# Altium footprint library WR-FPC_1.00mm.PcbLib: 115 footprints (part 7 of 8)
Each footprint in its own frame and in the unit in brackets; x right, y up, seen from the top. Pads: shape width x height; smd on the part's side, far side on the other; paste and mask are expansions set on the pad; w line width, h text height; cw(c..) or ccw(c..) is an arc to the next point about the centre after c.
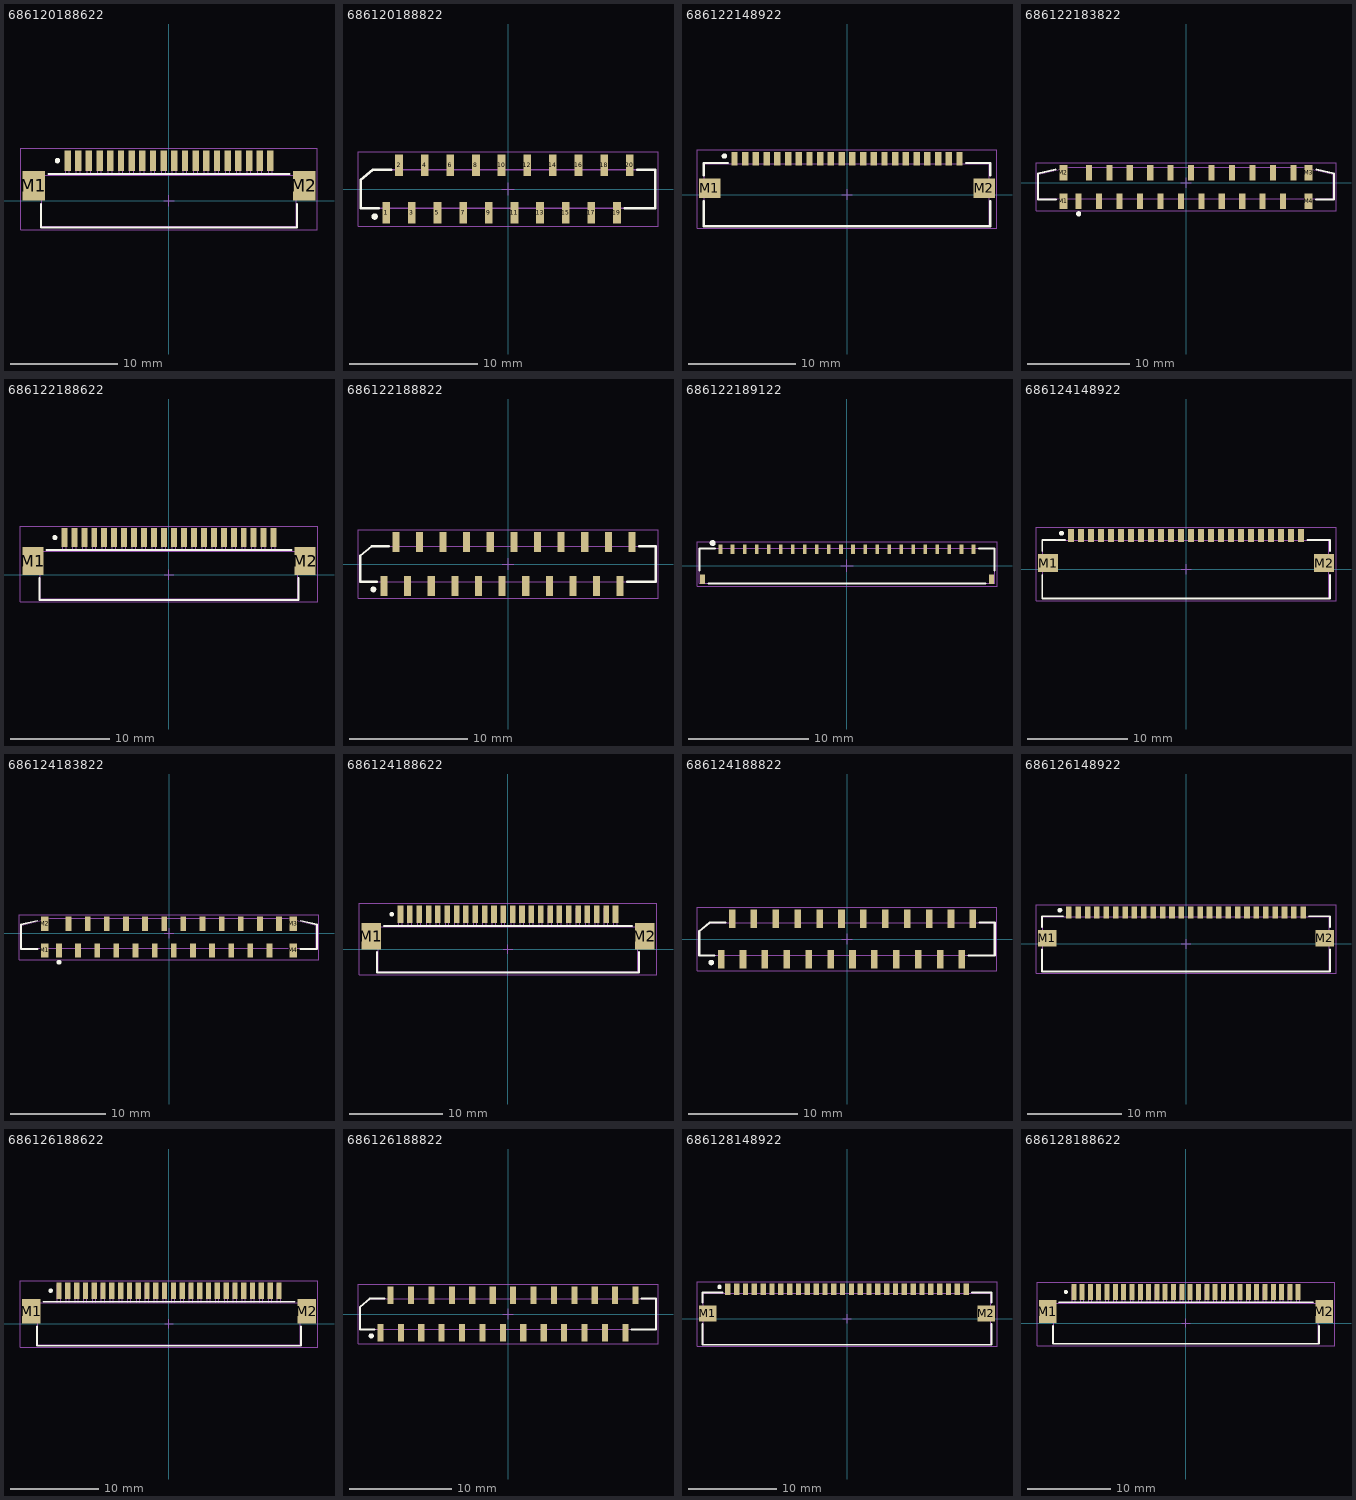
[diagram p6: the footprints below, top view; thin cyan lines are the x and y axes]

## 686120188622 [mm] "LIF Connectors, Horizontal, Top Contact, pitch 1mm, 20p"
height 3.1
pads (22):
  rect 0.6x1.9 smd: 1(-9.5,3.75) 2(-8.5,3.75) 3(-7.5,3.75) 4(-6.5,3.75) 5(-5.5,3.75) 6(-4.5,3.75) 7(-3.5,3.75) 8(-2.5,3.75) 9(-1.5,3.75) 10(-0.5,3.75) 11(0.5,3.75) 12(1.5,3.75) 13(2.5,3.75) 14(3.5,3.75) 15(4.5,3.75) 16(5.5,3.75) 17(6.5,3.75) 18(7.5,3.75) 19(8.5,3.75) 20(9.5,3.75)
  rect 2.1x2.8 smd: M1(-12.65,1.4) M2(12.65,1.4)
Top Overlay:
  circle w0.25: c-10.45,3.75 r0.125
  lines w0.2: -12,-0.3 -12,-2.5 12,-2.5 12,-0.3 ; -11.3,2.5 11.3,2.5
Top Designator:
  text ".Designator" at -7.498,-0.5 h1.5
Top Component Outline:
  lines w0.1: -9.675,2.4 -9.675,4.4 -9.325,4.4 -9.325,2.4 ; -8.675,2.4 -8.675,4.4 -8.325,4.4 -8.325,2.4 ; -7.675,2.4 -7.675,4.4 -7.325,4.4 -7.325,2.4 ; -6.675,2.4 -6.675,4.4 -6.325,4.4 -6.325,2.4 ; -5.675,2.4 -5.675,4.4 -5.325,4.4 -5.325,2.4 ; -4.675,2.4 -4.675,4.4 -4.325,4.4 -4.325,2.4 ; -3.675,2.4 -3.675,4.4 -3.325,4.4 -3.325,2.4 ; -2.675,2.4 -2.675,4.4 -2.325,4.4 -2.325,2.4 ; -1.675,2.4 -1.675,4.4 -1.325,4.4 -1.325,2.4 ; -0.675,2.4 -0.675,4.4 -0.325,4.4 -0.325,2.4 ; 0.325,2.4 0.325,4.4 0.675,4.4 0.675,2.4 ; 1.325,2.4 1.325,4.4 1.675,4.4 1.675,2.4 ; 2.325,2.4 2.325,4.4 2.675,4.4 2.675,2.4 ; 3.325,2.4 3.325,4.4 3.675,4.4 3.675,2.4 ; 4.325,2.4 4.325,4.4 4.675,4.4 4.675,2.4 ; 5.325,2.4 5.325,4.4 5.675,4.4 5.675,2.4 ; 6.325,2.4 6.325,4.4 6.675,4.4 6.675,2.4 ; 7.325,2.4 7.325,4.4 7.675,4.4 7.675,2.4 ; 8.325,2.4 8.325,4.4 8.675,4.4 8.675,2.4 ; 9.325,2.4 9.325,4.4 9.675,4.4 9.675,2.4 ; -13.15,0.4 -11.9,0.4 -11.9,-2.4 11.9,-2.4 11.9,0.4 13.15,0.4 13.15,2.4 -13.15,2.4 -13.15,0.4
Top 3D Body:
  lines w0.1: -9.675,2.4 -9.675,4.4 -9.325,4.4 -9.325,2.4 ; -8.675,2.4 -8.675,4.4 -8.325,4.4 -8.325,2.4 ; -7.675,2.4 -7.675,4.4 -7.325,4.4 -7.325,2.4 ; -6.675,2.4 -6.675,4.4 -6.325,4.4 -6.325,2.4 ; -5.675,2.4 -5.675,4.4 -5.325,4.4 -5.325,2.4 ; -4.675,2.4 -4.675,4.4 -4.325,4.4 -4.325,2.4 ; -3.675,2.4 -3.675,4.4 -3.325,4.4 -3.325,2.4 ; -2.675,2.4 -2.675,4.4 -2.325,4.4 -2.325,2.4 ; -1.675,2.4 -1.675,4.4 -1.325,4.4 -1.325,2.4 ; -0.675,2.4 -0.675,4.4 -0.325,4.4 -0.325,2.4 ; 0.325,2.4 0.325,4.4 0.675,4.4 0.675,2.4 ; 1.325,2.4 1.325,4.4 1.675,4.4 1.675,2.4 ; 2.325,2.4 2.325,4.4 2.675,4.4 2.675,2.4 ; 3.325,2.4 3.325,4.4 3.675,4.4 3.675,2.4 ; 4.325,2.4 4.325,4.4 4.675,4.4 4.675,2.4 ; 5.325,2.4 5.325,4.4 5.675,4.4 5.675,2.4 ; 6.325,2.4 6.325,4.4 6.675,4.4 6.675,2.4 ; 7.325,2.4 7.325,4.4 7.675,4.4 7.675,2.4 ; 8.325,2.4 8.325,4.4 8.675,4.4 8.675,2.4 ; 9.325,2.4 9.325,4.4 9.675,4.4 9.675,2.4 ; -13.15,0.4 -13.15,2.4 13.15,2.4 13.15,0.4 11.9,0.4 11.9,-2.4 -11.9,-2.4 -11.9,0.4 -13.15,0.4
Top Courtyard:
  lines w0.05: -0.5,0 0.5,0 ; 0,-0.5 0,0.5 ; -13.9,-2.7 13.9,-2.7 13.9,4.9 -13.9,4.9 -13.9,-2.7
3D body "686120188622.stp": height 3.1, standoff -0.01, extent -13.15,-2.4 13.15,4.4

## 686120188822 [mm] "LIF Connectors, Vertical Type A,  pitch 1mm, 20p"
height 5.1
pads (20):
  rect 0.6x1.7 smd: 1(-9.5,-1.85) 2(-8.5,1.85) 3(-7.5,-1.85) 4(-6.5,1.85) 5(-5.5,-1.85) 6(-4.5,1.85) 7(-3.5,-1.85) 8(-2.5,1.85) 9(-1.5,-1.85) 10(-0.5,1.85) 11(0.5,-1.85) 12(1.5,1.85) 13(2.5,-1.85) 14(3.5,1.85) 15(4.5,-1.85) 16(5.5,1.85) 17(6.5,-1.85) 18(7.5,1.85) 19(8.5,-1.85) 20(9.5,1.85)
Top Overlay:
  circle w0.25: c-10.4,-2.15 r0.125
  lines w0.2: -10.1,-1.5 -11.5,-1.5 -11.5,0.7 -10.547,1.5 -9.1,1.5 ; 9.1,-1.5 11.5,-1.5 11.5,1.5 10.1,1.5
Top Designator:
  text ".Designator" at -7.498,-0.5 h1.5
Top Component Outline:
  lines w0.1: -9.675,-1.5 -9.675,-2.2 -9.325,-2.2 -9.325,-1.5 ; -8.675,1.5 -8.675,2.2 -8.325,2.2 -8.325,1.5 ; -7.675,-1.5 -7.675,-2.2 -7.325,-2.2 -7.325,-1.5 ; -6.675,1.5 -6.675,2.2 -6.325,2.2 -6.325,1.5 ; -5.675,-1.5 -5.675,-2.2 -5.325,-2.2 -5.325,-1.5 ; -4.675,1.5 -4.675,2.2 -4.325,2.2 -4.325,1.5 ; -3.675,-1.5 -3.675,-2.2 -3.325,-2.2 -3.325,-1.5 ; -2.675,1.5 -2.675,2.2 -2.325,2.2 -2.325,1.5 ; -1.675,-1.5 -1.675,-2.2 -1.325,-2.2 -1.325,-1.5 ; -0.675,1.5 -0.675,2.2 -0.325,2.2 -0.325,1.5 ; 0.325,-1.5 0.325,-2.2 0.675,-2.2 0.675,-1.5 ; 1.325,1.5 1.325,2.2 1.675,2.2 1.675,1.5 ; 2.325,-1.5 2.325,-2.2 2.675,-2.2 2.675,-1.5 ; 3.325,1.5 3.325,2.2 3.675,2.2 3.675,1.5 ; 4.325,-1.5 4.325,-2.2 4.675,-2.2 4.675,-1.5 ; 5.325,1.5 5.325,2.2 5.675,2.2 5.675,1.5 ; 6.325,-1.5 6.325,-2.2 6.675,-2.2 6.675,-1.5 ; 7.325,1.5 7.325,2.2 7.675,2.2 7.675,1.5 ; 8.325,-1.5 8.325,-2.2 8.675,-2.2 8.675,-1.5 ; 9.325,1.5 9.325,2.2 9.675,2.2 9.675,1.5 ; -11.5,-1.5 11.5,-1.5 11.5,1.5 -10.547,1.5 -11.5,0.7 -11.5,-1.5
Top 3D Body:
  lines w0.1: -9.675,-1.5 -9.675,-2.2 -9.325,-2.2 -9.325,-1.5 ; -8.675,1.5 -8.675,2.2 -8.325,2.2 -8.325,1.5 ; -7.675,-1.5 -7.675,-2.2 -7.325,-2.2 -7.325,-1.5 ; -6.675,1.5 -6.675,2.2 -6.325,2.2 -6.325,1.5 ; -5.675,-1.5 -5.675,-2.2 -5.325,-2.2 -5.325,-1.5 ; -4.675,1.5 -4.675,2.2 -4.325,2.2 -4.325,1.5 ; -3.675,-1.5 -3.675,-2.2 -3.325,-2.2 -3.325,-1.5 ; -2.675,1.5 -2.675,2.2 -2.325,2.2 -2.325,1.5 ; -1.675,-1.5 -1.675,-2.2 -1.325,-2.2 -1.325,-1.5 ; -0.675,1.5 -0.675,2.2 -0.325,2.2 -0.325,1.5 ; 0.325,-1.5 0.325,-2.2 0.675,-2.2 0.675,-1.5 ; 1.325,1.5 1.325,2.2 1.675,2.2 1.675,1.5 ; 2.325,-1.5 2.325,-2.2 2.675,-2.2 2.675,-1.5 ; 3.325,1.5 3.325,2.2 3.675,2.2 3.675,1.5 ; 4.325,-1.5 4.325,-2.2 4.675,-2.2 4.675,-1.5 ; 5.325,1.5 5.325,2.2 5.675,2.2 5.675,1.5 ; 6.325,-1.5 6.325,-2.2 6.675,-2.2 6.675,-1.5 ; 7.325,1.5 7.325,2.2 7.675,2.2 7.675,1.5 ; 8.325,-1.5 8.325,-2.2 8.675,-2.2 8.675,-1.5 ; 9.325,1.5 9.325,2.2 9.675,2.2 9.675,1.5 ; -11.5,-1.5 -11.5,0.7 -10.547,1.5 11.5,1.5 11.5,-1.5 -11.5,-1.5
Top Courtyard:
  lines w0.05: -0.5,0 0.5,0 ; 0,-0.5 0,0.5 ; -11.7,-2.9 11.7,-2.9 11.7,2.9 -11.7,2.9 -11.7,-2.9
3D body "686120188822.stp": height 5.21, standoff 0.01, extent -11.5,-2.2 11.5,2.2

## 686122148922 [mm] "ZIF Connectors, Horizontal, Bottom Contact Hinge Type, pitch 1mm, 22p"
height 2.3
pads (24):
  rect 0.6x1.3 smd: 1(-10.5,3.35) 2(-9.5,3.35) 3(-8.5,3.35) 4(-7.5,3.35) 5(-6.5,3.35) 6(-5.5,3.35) 7(-4.5,3.35) 8(-3.5,3.35) 9(-2.5,3.35) 10(-1.5,3.35) 11(-0.5,3.35) 12(0.5,3.35) 13(1.5,3.35) 14(2.5,3.35) 15(3.5,3.35) 16(4.5,3.35) 17(5.5,3.35) 18(6.5,3.35) 19(7.5,3.35) 20(8.5,3.35) 21(9.5,3.35) 22(10.5,3.35)
  rect 2x1.8 smd: M1(-12.8,0.6) M2(12.8,0.6)
Top Overlay:
  circle w0.25: c-11.45,3.6 r0.125
  lines w0.2: -13.375,-0.6 -13.375,-2.95 13.375,-2.95 ; -13.375,1.8 -13.375,2.95 -11.125,2.95 ; 11.125,2.95 13.375,2.95 13.375,1.8 ; 13.375,-2.95 13.375,-0.6
Top Designator:
  text ".Designator" at -7.498,-0.5 h1.5
Top Component Outline:
  lines w0.1: -10.6,2.9 -10.6,3.6 -10.4,3.6 -10.4,2.9 ; -9.6,2.9 -9.6,3.6 -9.4,3.6 -9.4,2.9 ; -8.6,2.9 -8.6,3.6 -8.4,3.6 -8.4,2.9 ; -7.6,2.9 -7.6,3.6 -7.4,3.6 -7.4,2.9 ; -6.6,2.9 -6.6,3.6 -6.4,3.6 -6.4,2.9 ; -5.6,2.9 -5.6,3.6 -5.4,3.6 -5.4,2.9 ; -4.6,2.9 -4.6,3.6 -4.4,3.6 -4.4,2.9 ; -3.6,2.9 -3.6,3.6 -3.4,3.6 -3.4,2.9 ; -2.6,2.9 -2.6,3.6 -2.4,3.6 -2.4,2.9 ; -1.6,2.9 -1.6,3.6 -1.4,3.6 -1.4,2.9 ; -0.6,2.9 -0.6,3.6 -0.4,3.6 -0.4,2.9 ; 0.4,2.9 0.4,3.6 0.6,3.6 0.6,2.9 ; 1.4,2.9 1.4,3.6 1.6,3.6 1.6,2.9 ; 2.4,2.9 2.4,3.6 2.6,3.6 2.6,2.9 ; 3.4,2.9 3.4,3.6 3.6,3.6 3.6,2.9 ; 4.4,2.9 4.4,3.6 4.6,3.6 4.6,2.9 ; 5.4,2.9 5.4,3.6 5.6,3.6 5.6,2.9 ; 6.4,2.9 6.4,3.6 6.6,3.6 6.6,2.9 ; 7.4,2.9 7.4,3.6 7.6,3.6 7.6,2.9 ; 8.4,2.9 8.4,3.6 8.6,3.6 8.6,2.9 ; 9.4,2.9 9.4,3.6 9.6,3.6 9.6,2.9 ; 10.4,2.9 10.4,3.6 10.6,3.6 10.6,2.9 ; -13.3,-2.9 -13.3,2.9 13.3,2.9 13.3,-2.9 -13.3,-2.9
Top 3D Body:
  lines w0.1: -10.6,2.9 -10.6,3.6 -10.4,3.6 -10.4,2.9 ; -9.6,2.9 -9.6,3.6 -9.4,3.6 -9.4,2.9 ; -8.6,2.9 -8.6,3.6 -8.4,3.6 -8.4,2.9 ; -7.6,2.9 -7.6,3.6 -7.4,3.6 -7.4,2.9 ; -6.6,2.9 -6.6,3.6 -6.4,3.6 -6.4,2.9 ; -5.6,2.9 -5.6,3.6 -5.4,3.6 -5.4,2.9 ; -4.6,2.9 -4.6,3.6 -4.4,3.6 -4.4,2.9 ; -3.6,2.9 -3.6,3.6 -3.4,3.6 -3.4,2.9 ; -2.6,2.9 -2.6,3.6 -2.4,3.6 -2.4,2.9 ; -1.6,2.9 -1.6,3.6 -1.4,3.6 -1.4,2.9 ; -0.6,2.9 -0.6,3.6 -0.4,3.6 -0.4,2.9 ; 0.4,2.9 0.4,3.6 0.6,3.6 0.6,2.9 ; 1.4,2.9 1.4,3.6 1.6,3.6 1.6,2.9 ; 2.4,2.9 2.4,3.6 2.6,3.6 2.6,2.9 ; 3.4,2.9 3.4,3.6 3.6,3.6 3.6,2.9 ; 4.4,2.9 4.4,3.6 4.6,3.6 4.6,2.9 ; 5.4,2.9 5.4,3.6 5.6,3.6 5.6,2.9 ; 6.4,2.9 6.4,3.6 6.6,3.6 6.6,2.9 ; 7.4,2.9 7.4,3.6 7.6,3.6 7.6,2.9 ; 8.4,2.9 8.4,3.6 8.6,3.6 8.6,2.9 ; 9.4,2.9 9.4,3.6 9.6,3.6 9.6,2.9 ; 10.4,2.9 10.4,3.6 10.6,3.6 10.6,2.9 ; -13.3,-2.9 13.3,-2.9 13.3,2.9 -13.3,2.9 -13.3,-2.9
Top Courtyard:
  lines w0.05: -0.5,0 0.5,0 ; 0,-0.5 0,0.5 ; -14,-3.15 -14,4.2 14,4.2 14,-3.15 -14,-3.15
3D body "686122148922.stp": height 2.27, standoff 0.02, extent -13.3,-2.9 13.3,3.6

## 686122183822 [mm] "ZIF Connectors, Vertical, Type A, pitch 1mm, 22p"
height 4
pads (26):
  rect 0.6x1.5 smd: 1(-10.5,-1.8) 2(-9.5,1) 3(-8.5,-1.8) 4(-7.5,1) 5(-6.5,-1.8) 6(-5.5,1) 7(-4.5,-1.8) 8(-3.5,1) 9(-2.5,-1.8) 10(-1.5,1) 11(-0.5,-1.8) 12(0.5,1) 13(1.5,-1.8) 14(2.5,1) 15(3.5,-1.8) 16(4.5,1) 17(5.5,-1.8) 18(6.5,1) 19(7.5,-1.8) 20(8.5,1) 21(9.5,-1.8) 22(10.5,1)
  rect 0.8x1.5 smd: M1(-12,-1.8) M2(-12,1) M3(12,1) M4(12,-1.8)
Top Overlay:
  circle w0.25: c-10.5,-3.025 r0.125
  lines w0.2: -12.765,1.308 -14.475,0.897 -14.475,-1.625 -12.725,-1.625 ; 12.725,-1.625 14.475,-1.625 14.475,0.897 12.765,1.308
Top Designator:
  text ".Designator" at -7.498,-0.5 h1.5
Top Component Outline:
  lines w0.1: -12.2,-1.55 -12.2,-2.05 -11.8,-2.05 -11.8,-1.55 ; -10.6,-1.55 -10.6,-2.05 -10.4,-2.05 -10.4,-1.55 ; -8.6,-1.55 -8.6,-2.05 -8.4,-2.05 -8.4,-1.55 ; -6.6,-1.55 -6.6,-2.05 -6.4,-2.05 -6.4,-1.55 ; -4.6,-1.55 -4.6,-2.05 -4.4,-2.05 -4.4,-1.55 ; -2.6,-1.55 -2.6,-2.05 -2.4,-2.05 -2.4,-1.55 ; -0.6,-1.55 -0.6,-2.05 -0.4,-2.05 -0.4,-1.55 ; 1.4,-1.55 1.4,-2.05 1.6,-2.05 1.6,-1.55 ; 3.4,-1.55 3.4,-2.05 3.6,-2.05 3.6,-1.55 ; 5.4,-1.55 5.4,-2.05 5.6,-2.05 5.6,-1.55 ; 7.4,-1.55 7.4,-2.05 7.6,-2.05 7.6,-1.55 ; 9.4,-1.55 9.4,-2.05 9.6,-2.05 9.6,-1.55 ; 11.8,-1.55 11.8,-2.05 12.2,-2.05 12.2,-1.55 ; -14.4,-1.55 -14.4,0.84 -11.45,1.549 11.45,1.55 14.4,0.84 14.4,-1.55 -14.4,-1.55
Top 3D Body:
  lines w0.1: -12.2,-1.55 -12.2,-2.05 -11.8,-2.05 -11.8,-1.55 ; -10.6,-1.55 -10.6,-2.05 -10.4,-2.05 -10.4,-1.55 ; -8.6,-1.55 -8.6,-2.05 -8.4,-2.05 -8.4,-1.55 ; -6.6,-1.55 -6.6,-2.05 -6.4,-2.05 -6.4,-1.55 ; -4.6,-1.55 -4.6,-2.05 -4.4,-2.05 -4.4,-1.55 ; -2.6,-1.55 -2.6,-2.05 -2.4,-2.05 -2.4,-1.55 ; -0.6,-1.55 -0.6,-2.05 -0.4,-2.05 -0.4,-1.55 ; 1.4,-1.55 1.4,-2.05 1.6,-2.05 1.6,-1.55 ; 3.4,-1.55 3.4,-2.05 3.6,-2.05 3.6,-1.55 ; 5.4,-1.55 5.4,-2.05 5.6,-2.05 5.6,-1.55 ; 7.4,-1.55 7.4,-2.05 7.6,-2.05 7.6,-1.55 ; 9.4,-1.55 9.4,-2.05 9.6,-2.05 9.6,-1.55 ; 11.8,-1.55 11.8,-2.05 12.2,-2.05 12.2,-1.55 ; -14.4,-1.55 14.4,-1.55 14.4,0.84 11.45,1.549 -11.45,1.55 -14.4,0.84 -14.4,-1.55
Top Courtyard:
  lines w0.05: -0.5,0 0.5,0 ; 0,-0.5 0,0.5 ; -14.675,-2.75 -14.675,1.95 14.675,1.95 14.675,-2.75 -14.675,-2.75
3D body "686122183822.stp": height 4, standoff -0.02, extent -14.4,-2.05 14.4,1.55

## 686122188622 [mm] "LIF Connectors, Horizontal, Top Contact, pitch 1mm, 22p"
height 3.1
pads (24):
  rect 0.6x1.9 smd: 1(-10.5,3.75) 2(-9.5,3.75) 3(-8.5,3.75) 4(-7.5,3.75) 5(-6.5,3.75) 6(-5.5,3.75) 7(-4.5,3.75) 8(-3.5,3.75) 9(-2.5,3.75) 10(-1.5,3.75) 11(-0.5,3.75) 12(0.5,3.75) 13(1.5,3.75) 14(2.5,3.75) 15(3.5,3.75) 16(4.5,3.75) 17(5.5,3.75) 18(6.5,3.75) 19(7.5,3.75) 20(8.5,3.75) 21(9.5,3.75) 22(10.5,3.75)
  rect 2.1x2.8 smd: M1(-13.65,1.4) M2(13.65,1.4)
Top Overlay:
  circle w0.25: c-11.45,3.75 r0.125
  lines w0.2: -13,-0.3 -13,-2.5 13,-2.5 13,-0.3 ; -12.3,2.5 12.3,2.5
Top Designator:
  text ".Designator" at -7.498,-0.5 h1.5
Top Component Outline:
  lines w0.1: -10.675,2.4 -10.675,4.4 -10.325,4.4 -10.325,2.4 ; -9.675,2.4 -9.675,4.4 -9.325,4.4 -9.325,2.4 ; -8.675,2.4 -8.675,4.4 -8.325,4.4 -8.325,2.4 ; -7.675,2.4 -7.675,4.4 -7.325,4.4 -7.325,2.4 ; -6.675,2.4 -6.675,4.4 -6.325,4.4 -6.325,2.4 ; -5.675,2.4 -5.675,4.4 -5.325,4.4 -5.325,2.4 ; -4.675,2.4 -4.675,4.4 -4.325,4.4 -4.325,2.4 ; -3.675,2.4 -3.675,4.4 -3.325,4.4 -3.325,2.4 ; -2.675,2.4 -2.675,4.4 -2.325,4.4 -2.325,2.4 ; -1.675,2.4 -1.675,4.4 -1.325,4.4 -1.325,2.4 ; -0.675,2.4 -0.675,4.4 -0.325,4.4 -0.325,2.4 ; 0.325,2.4 0.325,4.4 0.675,4.4 0.675,2.4 ; 1.325,2.4 1.325,4.4 1.675,4.4 1.675,2.4 ; 2.325,2.4 2.325,4.4 2.675,4.4 2.675,2.4 ; 3.325,2.4 3.325,4.4 3.675,4.4 3.675,2.4 ; 4.325,2.4 4.325,4.4 4.675,4.4 4.675,2.4 ; 5.325,2.4 5.325,4.4 5.675,4.4 5.675,2.4 ; 6.325,2.4 6.325,4.4 6.675,4.4 6.675,2.4 ; 7.325,2.4 7.325,4.4 7.675,4.4 7.675,2.4 ; 8.325,2.4 8.325,4.4 8.675,4.4 8.675,2.4 ; 9.325,2.4 9.325,4.4 9.675,4.4 9.675,2.4 ; 10.325,2.4 10.325,4.4 10.675,4.4 10.675,2.4 ; -14.15,0.4 -14.15,2.4 14.15,2.4 14.15,0.4 12.9,0.4 12.9,-2.4 -12.9,-2.4 -12.9,0.4 -14.15,0.4
Top 3D Body:
  lines w0.1: -10.675,2.4 -10.675,4.4 -10.325,4.4 -10.325,2.4 ; -9.675,2.4 -9.675,4.4 -9.325,4.4 -9.325,2.4 ; -8.675,2.4 -8.675,4.4 -8.325,4.4 -8.325,2.4 ; -7.675,2.4 -7.675,4.4 -7.325,4.4 -7.325,2.4 ; -6.675,2.4 -6.675,4.4 -6.325,4.4 -6.325,2.4 ; -5.675,2.4 -5.675,4.4 -5.325,4.4 -5.325,2.4 ; -4.675,2.4 -4.675,4.4 -4.325,4.4 -4.325,2.4 ; -3.675,2.4 -3.675,4.4 -3.325,4.4 -3.325,2.4 ; -2.675,2.4 -2.675,4.4 -2.325,4.4 -2.325,2.4 ; -1.675,2.4 -1.675,4.4 -1.325,4.4 -1.325,2.4 ; -0.675,2.4 -0.675,4.4 -0.325,4.4 -0.325,2.4 ; 0.325,2.4 0.325,4.4 0.675,4.4 0.675,2.4 ; 1.325,2.4 1.325,4.4 1.675,4.4 1.675,2.4 ; 2.325,2.4 2.325,4.4 2.675,4.4 2.675,2.4 ; 3.325,2.4 3.325,4.4 3.675,4.4 3.675,2.4 ; 4.325,2.4 4.325,4.4 4.675,4.4 4.675,2.4 ; 5.325,2.4 5.325,4.4 5.675,4.4 5.675,2.4 ; 6.325,2.4 6.325,4.4 6.675,4.4 6.675,2.4 ; 7.325,2.4 7.325,4.4 7.675,4.4 7.675,2.4 ; 8.325,2.4 8.325,4.4 8.675,4.4 8.675,2.4 ; 9.325,2.4 9.325,4.4 9.675,4.4 9.675,2.4 ; 10.325,2.4 10.325,4.4 10.675,4.4 10.675,2.4 ; -14.15,0.4 -12.9,0.4 -12.9,-2.4 12.9,-2.4 12.9,0.4 14.15,0.4 14.15,2.4 -14.15,2.4 -14.15,0.4
Top Courtyard:
  lines w0.05: -0.5,0 0.5,0 ; 0,-0.5 0,0.5 ; -14.9,-2.7 -14.9,4.9 14.9,4.9 14.9,-2.7 -14.9,-2.7
3D body "686122188622.stp": height 3.1, standoff -0.01, extent -14.15,-2.4 14.15,4.4

## 686122188822 [mm] "LIF Connectors, Vertical Type A,  pitch 1mm, 22p"
height 5.1
pads (22):
  rect 0.6x1.7 smd: 1(-10.5,-1.85) 2(-9.5,1.85) 3(-8.5,-1.85) 4(-7.5,1.85) 5(-6.5,-1.85) 6(-5.5,1.85) 7(-4.5,-1.85) 8(-3.5,1.85) 9(-2.5,-1.85) 10(-1.5,1.85) 11(-0.5,-1.85) 12(0.5,1.85) 13(1.5,-1.85) 14(2.5,1.85) 15(3.5,-1.85) 16(4.5,1.85) 17(5.5,-1.85) 18(6.5,1.85) 19(7.5,-1.85) 20(8.5,1.85) 21(9.5,-1.85) 22(10.5,1.85)
Top Overlay:
  circle w0.25: c-11.4,-2.15 r0.125
  lines w0.2: -11.1,-1.5 -12.5,-1.5 -12.5,0.7 -11.547,1.5 -10.1,1.5 ; 10.1,-1.5 12.5,-1.5 12.5,1.5 11.1,1.5
Top Designator:
  text ".Designator" at -7.498,-0.5 h1.5
Top Component Outline:
  lines w0.1: -10.675,-1.5 -10.675,-2.2 -10.325,-2.2 -10.325,-1.5 ; -9.675,1.5 -9.675,2.2 -9.325,2.2 -9.325,1.5 ; -8.675,-1.5 -8.675,-2.2 -8.325,-2.2 -8.325,-1.5 ; -7.675,1.5 -7.675,2.2 -7.325,2.2 -7.325,1.5 ; -6.675,-1.5 -6.675,-2.2 -6.325,-2.2 -6.325,-1.5 ; -5.675,1.5 -5.675,2.2 -5.325,2.2 -5.325,1.5 ; -4.675,-1.5 -4.675,-2.2 -4.325,-2.2 -4.325,-1.5 ; -3.675,1.5 -3.675,2.2 -3.325,2.2 -3.325,1.5 ; -2.675,-1.5 -2.675,-2.2 -2.325,-2.2 -2.325,-1.5 ; -1.675,1.5 -1.675,2.2 -1.325,2.2 -1.325,1.5 ; -0.675,-1.5 -0.675,-2.2 -0.325,-2.2 -0.325,-1.5 ; 0.325,1.5 0.325,2.2 0.675,2.2 0.675,1.5 ; 1.325,-1.5 1.325,-2.2 1.675,-2.2 1.675,-1.5 ; 2.325,1.5 2.325,2.2 2.675,2.2 2.675,1.5 ; 3.325,-1.5 3.325,-2.2 3.675,-2.2 3.675,-1.5 ; 4.325,1.5 4.325,2.2 4.675,2.2 4.675,1.5 ; 5.325,-1.5 5.325,-2.2 5.675,-2.2 5.675,-1.5 ; 6.325,1.5 6.325,2.2 6.675,2.2 6.675,1.5 ; 7.325,-1.5 7.325,-2.2 7.675,-2.2 7.675,-1.5 ; 8.325,1.5 8.325,2.2 8.675,2.2 8.675,1.5 ; 9.325,-1.5 9.325,-2.2 9.675,-2.2 9.675,-1.5 ; 10.325,1.5 10.325,2.2 10.675,2.2 10.675,1.5 ; -12.5,-1.5 12.5,-1.5 12.5,1.5 -11.547,1.5 -12.5,0.7 -12.5,-1.5
Top 3D Body:
  lines w0.1: -10.675,-1.5 -10.675,-2.2 -10.325,-2.2 -10.325,-1.5 ; -9.675,1.5 -9.675,2.2 -9.325,2.2 -9.325,1.5 ; -8.675,-1.5 -8.675,-2.2 -8.325,-2.2 -8.325,-1.5 ; -7.675,1.5 -7.675,2.2 -7.325,2.2 -7.325,1.5 ; -6.675,-1.5 -6.675,-2.2 -6.325,-2.2 -6.325,-1.5 ; -5.675,1.5 -5.675,2.2 -5.325,2.2 -5.325,1.5 ; -4.675,-1.5 -4.675,-2.2 -4.325,-2.2 -4.325,-1.5 ; -3.675,1.5 -3.675,2.2 -3.325,2.2 -3.325,1.5 ; -2.675,-1.5 -2.675,-2.2 -2.325,-2.2 -2.325,-1.5 ; -1.675,1.5 -1.675,2.2 -1.325,2.2 -1.325,1.5 ; -0.675,-1.5 -0.675,-2.2 -0.325,-2.2 -0.325,-1.5 ; 0.325,1.5 0.325,2.2 0.675,2.2 0.675,1.5 ; 1.325,-1.5 1.325,-2.2 1.675,-2.2 1.675,-1.5 ; 2.325,1.5 2.325,2.2 2.675,2.2 2.675,1.5 ; 3.325,-1.5 3.325,-2.2 3.675,-2.2 3.675,-1.5 ; 4.325,1.5 4.325,2.2 4.675,2.2 4.675,1.5 ; 5.325,-1.5 5.325,-2.2 5.675,-2.2 5.675,-1.5 ; 6.325,1.5 6.325,2.2 6.675,2.2 6.675,1.5 ; 7.325,-1.5 7.325,-2.2 7.675,-2.2 7.675,-1.5 ; 8.325,1.5 8.325,2.2 8.675,2.2 8.675,1.5 ; 9.325,-1.5 9.325,-2.2 9.675,-2.2 9.675,-1.5 ; 10.325,1.5 10.325,2.2 10.675,2.2 10.675,1.5 ; -12.5,-1.5 -12.5,0.7 -11.547,1.5 12.5,1.5 12.5,-1.5 -12.5,-1.5
Top Courtyard:
  lines w0.05: -0.5,0 0.5,0 ; 0,-0.5 0,0.5 ; -12.7,-2.9 12.7,-2.9 12.7,2.9 -12.7,2.9 -12.7,-2.9
3D body "686122188822.stp": height 5.21, standoff 0.01, extent -12.5,-2.2 12.5,2.2

## 686122189122 [mm] "SMT ZIF Horizontal Back Locking 1mm, 22p"
height 0.96
pads (24):
  rect 0.3x0.8 smd: 1(-10.5,1.4) 2(-9.5,1.4) 3(-8.5,1.4) 4(-7.5,1.4) 5(-6.5,1.4) 6(-5.5,1.4) 7(-4.5,1.4) 8(-3.5,1.4) 9(-2.5,1.4) 10(-1.5,1.4) 11(-0.5,1.4) 12(0.5,1.4) 13(1.5,1.4) 14(2.5,1.4) 15(3.5,1.4) 16(4.5,1.4) 17(5.5,1.4) 18(6.5,1.4) 19(7.5,1.4) 20(8.5,1.4) 21(9.5,1.4) 22(10.5,1.4)
  rect 0.4x0.8 smd: M1(-12,-1.1) M2(12,-1.1)
Top Overlay:
  circle w0.25: c-11.15,1.9 r0.125
  lines w0.15: -12.25,-0.4 -12.25,1.45 -10.95,1.45 ; -11.5,-1.45 11.5,-1.45 ; 10.95,1.45 12.25,1.45 12.25,-0.4
Top Designator:
  text ".Designator" at -7.498,-0.5 h1.5
Top Component Outline:
  lines w0.1: -12.25,-1.45 12.25,-1.45 12.25,1.45 -12.25,1.45 -12.25,-1.45
Top 3D Body:
  lines w0.1: -12.25,-1.45 -12.25,1.45 12.25,1.45 12.25,-1.45 -12.25,-1.45
Top Courtyard:
  lines w0.05: -0.5,0 0.5,0 ; 0,-0.5 0,0.5 ; -12.45,-1.7 -12.45,2 12.45,2 12.45,-1.7 -12.45,-1.7
3D body "686122189122.stp": height 1.79, standoff 0.01, extent -12.25,-1.45 12.25,1.652

## 686124148922 [mm] "ZIF Connectors, Horizontal, Bottom Contact Hinge Type, pitch 1mm, 24p"
height 2.3
pads (26):
  rect 0.6x1.3 smd: 1(-11.5,3.35) 2(-10.5,3.35) 3(-9.5,3.35) 4(-8.5,3.35) 5(-7.5,3.35) 6(-6.5,3.35) 7(-5.5,3.35) 8(-4.5,3.35) 9(-3.5,3.35) 10(-2.5,3.35) 11(-1.5,3.35) 12(-0.5,3.35) 13(0.5,3.35) 14(1.5,3.35) 15(2.5,3.35) 16(3.5,3.35) 17(4.5,3.35) 18(5.5,3.35) 19(6.5,3.35) 20(7.5,3.35) 21(8.5,3.35) 22(9.5,3.35) 23(10.5,3.35) 24(11.5,3.35)
  rect 2x1.8 smd: M1(-13.8,0.6) M2(13.8,0.6)
Top Overlay:
  circle w0.25: c-12.45,3.6 r0.125
  lines w0.2: -14.375,-0.6 -14.375,-2.95 14.375,-2.95 14.375,-0.6 ; -14.375,1.8 -14.375,2.95 -12.125,2.95 ; 12.125,2.95 14.375,2.95 14.375,1.8
Top Designator:
  text ".Designator" at -7.498,-0.5 h1.5
Top Component Outline:
  lines w0.1: -11.6,2.9 -11.6,3.6 -11.4,3.6 -11.4,2.9 ; -10.6,2.9 -10.6,3.6 -10.4,3.6 -10.4,2.9 ; -9.6,2.9 -9.6,3.6 -9.4,3.6 -9.4,2.9 ; -8.6,2.9 -8.6,3.6 -8.4,3.6 -8.4,2.9 ; -7.6,2.9 -7.6,3.6 -7.4,3.6 -7.4,2.9 ; -6.6,2.9 -6.6,3.6 -6.4,3.6 -6.4,2.9 ; -5.6,2.9 -5.6,3.6 -5.4,3.6 -5.4,2.9 ; -4.6,2.9 -4.6,3.6 -4.4,3.6 -4.4,2.9 ; -3.6,2.9 -3.6,3.6 -3.4,3.6 -3.4,2.9 ; -2.6,2.9 -2.6,3.6 -2.4,3.6 -2.4,2.9 ; -1.6,2.9 -1.6,3.6 -1.4,3.6 -1.4,2.9 ; -0.6,2.9 -0.6,3.6 -0.4,3.6 -0.4,2.9 ; 0.4,2.9 0.4,3.6 0.6,3.6 0.6,2.9 ; 1.4,2.9 1.4,3.6 1.6,3.6 1.6,2.9 ; 2.4,2.9 2.4,3.6 2.6,3.6 2.6,2.9 ; 3.4,2.9 3.4,3.6 3.6,3.6 3.6,2.9 ; 4.4,2.9 4.4,3.6 4.6,3.6 4.6,2.9 ; 5.4,2.9 5.4,3.6 5.6,3.6 5.6,2.9 ; 6.4,2.9 6.4,3.6 6.6,3.6 6.6,2.9 ; 7.4,2.9 7.4,3.6 7.6,3.6 7.6,2.9 ; 8.4,2.9 8.4,3.6 8.6,3.6 8.6,2.9 ; 9.4,2.9 9.4,3.6 9.6,3.6 9.6,2.9 ; 10.4,2.9 10.4,3.6 10.6,3.6 10.6,2.9 ; 11.4,2.9 11.4,3.6 11.6,3.6 11.6,2.9 ; -14.3,-2.9 -14.3,2.9 14.3,2.9 14.3,-2.9 -14.3,-2.9
Top 3D Body:
  lines w0.1: -11.6,2.9 -11.6,3.6 -11.4,3.6 -11.4,2.9 ; -10.6,2.9 -10.6,3.6 -10.4,3.6 -10.4,2.9 ; -9.6,2.9 -9.6,3.6 -9.4,3.6 -9.4,2.9 ; -8.6,2.9 -8.6,3.6 -8.4,3.6 -8.4,2.9 ; -7.6,2.9 -7.6,3.6 -7.4,3.6 -7.4,2.9 ; -6.6,2.9 -6.6,3.6 -6.4,3.6 -6.4,2.9 ; -5.6,2.9 -5.6,3.6 -5.4,3.6 -5.4,2.9 ; -4.6,2.9 -4.6,3.6 -4.4,3.6 -4.4,2.9 ; -3.6,2.9 -3.6,3.6 -3.4,3.6 -3.4,2.9 ; -2.6,2.9 -2.6,3.6 -2.4,3.6 -2.4,2.9 ; -1.6,2.9 -1.6,3.6 -1.4,3.6 -1.4,2.9 ; -0.6,2.9 -0.6,3.6 -0.4,3.6 -0.4,2.9 ; 0.4,2.9 0.4,3.6 0.6,3.6 0.6,2.9 ; 1.4,2.9 1.4,3.6 1.6,3.6 1.6,2.9 ; 2.4,2.9 2.4,3.6 2.6,3.6 2.6,2.9 ; 3.4,2.9 3.4,3.6 3.6,3.6 3.6,2.9 ; 4.4,2.9 4.4,3.6 4.6,3.6 4.6,2.9 ; 5.4,2.9 5.4,3.6 5.6,3.6 5.6,2.9 ; 6.4,2.9 6.4,3.6 6.6,3.6 6.6,2.9 ; 7.4,2.9 7.4,3.6 7.6,3.6 7.6,2.9 ; 8.4,2.9 8.4,3.6 8.6,3.6 8.6,2.9 ; 9.4,2.9 9.4,3.6 9.6,3.6 9.6,2.9 ; 10.4,2.9 10.4,3.6 10.6,3.6 10.6,2.9 ; 11.4,2.9 11.4,3.6 11.6,3.6 11.6,2.9 ; -14.3,-2.9 14.3,-2.9 14.3,2.9 -14.3,2.9 -14.3,-2.9
Top Courtyard:
  lines w0.05: -0.5,0 0.5,0 ; 0,-0.5 0,0.5 ; -15,-3.15 -15,4.2 15,4.2 15,-3.15 -15,-3.15
3D body "686124148922.stp": height 2.27, standoff 0.02, extent -14.3,-2.9 14.3,3.6

## 686124183822 [mm] "ZIF Connectors, Vertical, Type A, pitch 1mm, 24p"
height 4
pads (28):
  rect 0.6x1.5 smd: 1(-11.5,-1.8) 2(-10.5,1) 3(-9.5,-1.8) 4(-8.5,1) 5(-7.5,-1.8) 6(-6.5,1) 7(-5.5,-1.8) 8(-4.5,1) 9(-3.5,-1.8) 10(-2.5,1) 11(-1.5,-1.8) 12(-0.5,1) 13(0.5,-1.8) 14(1.5,1) 15(2.5,-1.8) 16(3.5,1) 17(4.5,-1.8) 18(5.5,1) 19(6.5,-1.8) 20(7.5,1) 21(8.5,-1.8) 22(9.5,1) 23(10.5,-1.8) 24(11.5,1)
  rect 0.8x1.5 smd: M1(-13,-1.8) M2(-13,1) M3(13,1) M4(13,-1.8)
Top Overlay:
  circle w0.25: c-11.5,-3.025 r0.125
  lines w0.2: -13.765,1.308 -15.475,0.897 -15.475,-1.625 -13.725,-1.625 ; 13.725,-1.625 15.475,-1.625 15.475,0.897 13.765,1.308
Top Designator:
  text ".Designator" at -7.498,-0.5 h1.5
Top Component Outline:
  lines w0.1: -13.2,-1.55 -13.2,-2.05 -12.8,-2.05 -12.8,-1.55 ; -11.6,-1.55 -11.6,-2.05 -11.4,-2.05 -11.4,-1.55 ; -9.6,-1.55 -9.6,-2.05 -9.4,-2.05 -9.4,-1.55 ; -7.6,-1.55 -7.6,-2.05 -7.4,-2.05 -7.4,-1.55 ; -5.6,-1.55 -5.6,-2.05 -5.4,-2.05 -5.4,-1.55 ; -3.6,-1.55 -3.6,-2.05 -3.4,-2.05 -3.4,-1.55 ; -1.6,-1.55 -1.6,-2.05 -1.4,-2.05 -1.4,-1.55 ; 0.4,-1.55 0.4,-2.05 0.6,-2.05 0.6,-1.55 ; 2.4,-1.55 2.4,-2.05 2.6,-2.05 2.6,-1.55 ; 4.4,-1.55 4.4,-2.05 4.6,-2.05 4.6,-1.55 ; 6.4,-1.55 6.4,-2.05 6.6,-2.05 6.6,-1.55 ; 8.4,-1.55 8.4,-2.05 8.6,-2.05 8.6,-1.55 ; 10.4,-1.55 10.4,-2.05 10.6,-2.05 10.6,-1.55 ; -15.4,-1.55 -15.4,0.84 -12.45,1.549 12.45,1.55 15.4,0.84 15.4,-1.55 -15.4,-1.55
Top 3D Body:
  lines w0.1: -13.2,-1.55 -13.2,-2.05 -12.8,-2.05 -12.8,-1.55 ; -11.6,-1.55 -11.6,-2.05 -11.4,-2.05 -11.4,-1.55 ; -9.6,-1.55 -9.6,-2.05 -9.4,-2.05 -9.4,-1.55 ; -7.6,-1.55 -7.6,-2.05 -7.4,-2.05 -7.4,-1.55 ; -5.6,-1.55 -5.6,-2.05 -5.4,-2.05 -5.4,-1.55 ; -3.6,-1.55 -3.6,-2.05 -3.4,-2.05 -3.4,-1.55 ; -1.6,-1.55 -1.6,-2.05 -1.4,-2.05 -1.4,-1.55 ; 0.4,-1.55 0.4,-2.05 0.6,-2.05 0.6,-1.55 ; 2.4,-1.55 2.4,-2.05 2.6,-2.05 2.6,-1.55 ; 4.4,-1.55 4.4,-2.05 4.6,-2.05 4.6,-1.55 ; 6.4,-1.55 6.4,-2.05 6.6,-2.05 6.6,-1.55 ; 8.4,-1.55 8.4,-2.05 8.6,-2.05 8.6,-1.55 ; 10.4,-1.55 10.4,-2.05 10.6,-2.05 10.6,-1.55 ; -15.4,-1.55 15.4,-1.55 15.4,0.84 12.45,1.549 -12.45,1.55 -15.4,0.84 -15.4,-1.55
Top Courtyard:
  lines w0.05: -0.5,0 0.5,0 ; 0,-0.5 0,0.5 ; -15.675,-2.75 -15.675,1.95 15.675,1.95 15.675,-2.75 -15.675,-2.75
3D body "686124183822.stp": height 4, standoff -0.02, extent -15.4,-2.05 15.4,1.55

## 686124188622 [mm] "LIF Connectors, Horizontal, Top Contact, pitch 1mm, 24p"
height 3.1
pads (26):
  rect 0.6x1.9 smd: 1(-11.5,3.75) 2(-10.5,3.75) 3(-9.5,3.75) 4(-8.5,3.75) 5(-7.5,3.75) 6(-6.5,3.75) 7(-5.5,3.75) 8(-4.5,3.75) 9(-3.5,3.75) 10(-2.5,3.75) 11(-1.5,3.75) 12(-0.5,3.75) 13(0.5,3.75) 14(1.5,3.75) 15(2.5,3.75) 16(3.5,3.75) 17(4.5,3.75) 18(5.5,3.75) 19(6.5,3.75) 20(7.5,3.75) 21(8.5,3.75) 22(9.5,3.75) 23(10.5,3.75) 24(11.5,3.75)
  rect 2.1x2.8 smd: M1(-14.65,1.4) M2(14.65,1.4)
Top Overlay:
  circle w0.25: c-12.45,3.75 r0.125
  lines w0.2: -14,-0.3 -14,-2.5 14,-2.5 14,-0.3 ; -13.3,2.5 13.3,2.5
Top Designator:
  text ".Designator" at -7.498,-0.5 h1.5
Top Component Outline:
  lines w0.1: -11.675,2.4 -11.675,4.4 -11.325,4.4 -11.325,2.4 ; -10.675,2.4 -10.675,4.4 -10.325,4.4 -10.325,2.4 ; -9.675,2.4 -9.675,4.4 -9.325,4.4 -9.325,2.4 ; -8.675,2.4 -8.675,4.4 -8.325,4.4 -8.325,2.4 ; -7.675,2.4 -7.675,4.4 -7.325,4.4 -7.325,2.4 ; -6.675,2.4 -6.675,4.4 -6.325,4.4 -6.325,2.4 ; -5.675,2.4 -5.675,4.4 -5.325,4.4 -5.325,2.4 ; -4.675,2.4 -4.675,4.4 -4.325,4.4 -4.325,2.4 ; -3.675,2.4 -3.675,4.4 -3.325,4.4 -3.325,2.4 ; -2.675,2.4 -2.675,4.4 -2.325,4.4 -2.325,2.4 ; -1.675,2.4 -1.675,4.4 -1.325,4.4 -1.325,2.4 ; -0.675,2.4 -0.675,4.4 -0.325,4.4 -0.325,2.4 ; 0.325,2.4 0.325,4.4 0.675,4.4 0.675,2.4 ; 1.325,2.4 1.325,4.4 1.675,4.4 1.675,2.4 ; 2.325,2.4 2.325,4.4 2.675,4.4 2.675,2.4 ; 3.325,2.4 3.325,4.4 3.675,4.4 3.675,2.4 ; 4.325,2.4 4.325,4.4 4.675,4.4 4.675,2.4 ; 5.325,2.4 5.325,4.4 5.675,4.4 5.675,2.4 ; 6.325,2.4 6.325,4.4 6.675,4.4 6.675,2.4 ; 7.325,2.4 7.325,4.4 7.675,4.4 7.675,2.4 ; 8.325,2.4 8.325,4.4 8.675,4.4 8.675,2.4 ; 9.325,2.4 9.325,4.4 9.675,4.4 9.675,2.4 ; 10.325,2.4 10.325,4.4 10.675,4.4 10.675,2.4 ; 11.325,2.4 11.325,4.4 11.675,4.4 11.675,2.4 ; -15.15,0.4 -15.15,2.4 15.15,2.4 15.15,0.4 13.9,0.4 13.9,-2.4 -13.9,-2.4 -13.9,0.4 -15.15,0.4
Top 3D Body:
  lines w0.1: -11.675,2.4 -11.675,4.4 -11.325,4.4 -11.325,2.4 ; -10.675,2.4 -10.675,4.4 -10.325,4.4 -10.325,2.4 ; -9.675,2.4 -9.675,4.4 -9.325,4.4 -9.325,2.4 ; -8.675,2.4 -8.675,4.4 -8.325,4.4 -8.325,2.4 ; -7.675,2.4 -7.675,4.4 -7.325,4.4 -7.325,2.4 ; -6.675,2.4 -6.675,4.4 -6.325,4.4 -6.325,2.4 ; -5.675,2.4 -5.675,4.4 -5.325,4.4 -5.325,2.4 ; -4.675,2.4 -4.675,4.4 -4.325,4.4 -4.325,2.4 ; -3.675,2.4 -3.675,4.4 -3.325,4.4 -3.325,2.4 ; -2.675,2.4 -2.675,4.4 -2.325,4.4 -2.325,2.4 ; -1.675,2.4 -1.675,4.4 -1.325,4.4 -1.325,2.4 ; -0.675,2.4 -0.675,4.4 -0.325,4.4 -0.325,2.4 ; 0.325,2.4 0.325,4.4 0.675,4.4 0.675,2.4 ; 1.325,2.4 1.325,4.4 1.675,4.4 1.675,2.4 ; 2.325,2.4 2.325,4.4 2.675,4.4 2.675,2.4 ; 3.325,2.4 3.325,4.4 3.675,4.4 3.675,2.4 ; 4.325,2.4 4.325,4.4 4.675,4.4 4.675,2.4 ; 5.325,2.4 5.325,4.4 5.675,4.4 5.675,2.4 ; 6.325,2.4 6.325,4.4 6.675,4.4 6.675,2.4 ; 7.325,2.4 7.325,4.4 7.675,4.4 7.675,2.4 ; 8.325,2.4 8.325,4.4 8.675,4.4 8.675,2.4 ; 9.325,2.4 9.325,4.4 9.675,4.4 9.675,2.4 ; 10.325,2.4 10.325,4.4 10.675,4.4 10.675,2.4 ; 11.325,2.4 11.325,4.4 11.675,4.4 11.675,2.4 ; -15.15,0.4 -13.9,0.4 -13.9,-2.4 13.9,-2.4 13.9,0.4 15.15,0.4 15.15,2.4 -15.15,2.4 -15.15,0.4
Top Courtyard:
  lines w0.05: -0.5,0 0.5,0 ; 0,-0.5 0,0.5 ; -15.9,-2.7 -15.9,4.9 15.9,4.9 15.9,-2.7 -15.9,-2.7
3D body "686124188622.stp": height 3.1, standoff -0.01, extent -15.15,-2.4 15.15,4.4

## 686124188822 [mm] "LIF Connectors, Vertical Type A,  pitch 1mm, 24p"
height 5.1
pads (24):
  rect 0.6x1.7 smd: 1(-11.5,-1.85) 2(-10.5,1.85) 3(-9.5,-1.85) 4(-8.5,1.85) 5(-7.5,-1.85) 6(-6.5,1.85) 7(-5.5,-1.85) 8(-4.5,1.85) 9(-3.5,-1.85) 10(-2.5,1.85) 11(-1.5,-1.85) 12(-0.5,1.85) 13(0.5,-1.85) 14(1.5,1.85) 15(2.5,-1.85) 16(3.5,1.85) 17(4.5,-1.85) 18(5.5,1.85) 19(6.5,-1.85) 20(7.5,1.85) 21(8.5,-1.85) 22(9.5,1.85) 23(10.5,-1.85) 24(11.5,1.85)
Top Overlay:
  circle w0.25: c-12.4,-2.15 r0.125
  lines w0.2: -12.1,-1.5 -13.5,-1.5 -13.5,0.7 -12.547,1.5 -11.1,1.5 ; 11.1,-1.5 13.5,-1.5 13.5,1.5 12.1,1.5
Top Designator:
  text ".Designator" at -7.498,-0.5 h1.5
Top Component Outline:
  lines w0.1: -12.547,1.5 13.5,1.5 13.5,-1.5 -13.5,-1.5 -13.5,0.7 -12.547,1.5 ; -11.675,-1.5 -11.675,-2.2 -11.325,-2.2 -11.325,-1.5 ; -10.675,1.5 -10.675,2.2 -10.325,2.2 -10.325,1.5 ; -9.675,-1.5 -9.675,-2.2 -9.325,-2.2 -9.325,-1.5 ; -8.675,1.5 -8.675,2.2 -8.325,2.2 -8.325,1.5 ; -7.675,-1.5 -7.675,-2.2 -7.325,-2.2 -7.325,-1.5 ; -6.675,1.5 -6.675,2.2 -6.325,2.2 -6.325,1.5 ; -5.675,-1.5 -5.675,-2.2 -5.325,-2.2 -5.325,-1.5 ; -4.675,1.5 -4.675,2.2 -4.325,2.2 -4.325,1.5 ; -3.675,-1.5 -3.675,-2.2 -3.325,-2.2 -3.325,-1.5 ; -2.675,1.5 -2.675,2.2 -2.325,2.2 -2.325,1.5 ; -1.675,-1.5 -1.675,-2.2 -1.325,-2.2 -1.325,-1.5 ; -0.675,1.5 -0.675,2.2 -0.325,2.2 -0.325,1.5 ; 0.325,-1.5 0.325,-2.2 0.675,-2.2 0.675,-1.5 ; 1.325,1.5 1.325,2.2 1.675,2.2 1.675,1.5 ; 2.325,-1.5 2.325,-2.2 2.675,-2.2 2.675,-1.5 ; 3.325,1.5 3.325,2.2 3.675,2.2 3.675,1.5 ; 4.325,-1.5 4.325,-2.2 4.675,-2.2 4.675,-1.5 ; 5.325,1.5 5.325,2.2 5.675,2.2 5.675,1.5 ; 6.325,-1.5 6.325,-2.2 6.675,-2.2 6.675,-1.5 ; 7.325,1.5 7.325,2.2 7.675,2.2 7.675,1.5 ; 8.325,-1.5 8.325,-2.2 8.675,-2.2 8.675,-1.5 ; 9.325,1.5 9.325,2.2 9.675,2.2 9.675,1.5 ; 10.325,-1.5 10.325,-2.2 10.675,-2.2 10.675,-1.5 ; 11.325,1.5 11.325,2.2 11.675,2.2 11.675,1.5
Top 3D Body:
  lines w0.1: -12.547,1.5 13.5,1.5 13.5,-1.5 -13.5,-1.5 -13.5,0.7 -12.547,1.5 ; -11.675,-1.5 -11.675,-2.2 -11.325,-2.2 -11.325,-1.5 ; -10.675,1.5 -10.675,2.2 -10.325,2.2 -10.325,1.5 ; -9.675,-1.5 -9.675,-2.2 -9.325,-2.2 -9.325,-1.5 ; -8.675,1.5 -8.675,2.2 -8.325,2.2 -8.325,1.5 ; -7.675,-1.5 -7.675,-2.2 -7.325,-2.2 -7.325,-1.5 ; -6.675,1.5 -6.675,2.2 -6.325,2.2 -6.325,1.5 ; -5.675,-1.5 -5.675,-2.2 -5.325,-2.2 -5.325,-1.5 ; -4.675,1.5 -4.675,2.2 -4.325,2.2 -4.325,1.5 ; -3.675,-1.5 -3.675,-2.2 -3.325,-2.2 -3.325,-1.5 ; -2.675,1.5 -2.675,2.2 -2.325,2.2 -2.325,1.5 ; -1.675,-1.5 -1.675,-2.2 -1.325,-2.2 -1.325,-1.5 ; -0.675,1.5 -0.675,2.2 -0.325,2.2 -0.325,1.5 ; 0.325,-1.5 0.325,-2.2 0.675,-2.2 0.675,-1.5 ; 1.325,1.5 1.325,2.2 1.675,2.2 1.675,1.5 ; 2.325,-1.5 2.325,-2.2 2.675,-2.2 2.675,-1.5 ; 3.325,1.5 3.325,2.2 3.675,2.2 3.675,1.5 ; 4.325,-1.5 4.325,-2.2 4.675,-2.2 4.675,-1.5 ; 5.325,1.5 5.325,2.2 5.675,2.2 5.675,1.5 ; 6.325,-1.5 6.325,-2.2 6.675,-2.2 6.675,-1.5 ; 7.325,1.5 7.325,2.2 7.675,2.2 7.675,1.5 ; 8.325,-1.5 8.325,-2.2 8.675,-2.2 8.675,-1.5 ; 9.325,1.5 9.325,2.2 9.675,2.2 9.675,1.5 ; 10.325,-1.5 10.325,-2.2 10.675,-2.2 10.675,-1.5 ; 11.325,1.5 11.325,2.2 11.675,2.2 11.675,1.5
Top Courtyard:
  lines w0.05: -0.5,0 0.5,0 ; 0,-0.5 0,0.5 ; -13.7,-2.9 13.7,-2.9 13.7,2.9 -13.7,2.9 -13.7,-2.9
3D body "686124188822.stp": height 5.21, standoff 0.01, extent -13.5,-2.2 13.5,2.2

## 686126148922 [mm] "ZIF Connectors, Horizontal, Bottom Contact Hinge Type, pitch 1mm, 26p"
height 2.3
pads (28):
  rect 0.6x1.3 smd: 1(-12.5,3.35) 2(-11.5,3.35) 3(-10.5,3.35) 4(-9.5,3.35) 5(-8.5,3.35) 6(-7.5,3.35) 7(-6.5,3.35) 8(-5.5,3.35) 9(-4.5,3.35) 10(-3.5,3.35) 11(-2.5,3.35) 12(-1.5,3.35) 13(-0.5,3.35) 14(0.5,3.35) 15(1.5,3.35) 16(2.5,3.35) 17(3.5,3.35) 18(4.5,3.35) 19(5.5,3.35) 20(6.5,3.35) 21(7.5,3.35) 22(8.5,3.35) 23(9.5,3.35) 24(10.5,3.35) 25(11.5,3.35) 26(12.5,3.35)
  rect 2x1.8 smd: M1(-14.8,0.6) M2(14.8,0.6)
Top Overlay:
  circle w0.25: c-13.45,3.6 r0.125
  lines w0.2: -15.375,-0.6 -15.375,-2.95 15.375,-2.95 15.375,-0.6 ; -15.375,1.8 -15.375,2.95 -13.125,2.95 ; 13.125,2.95 15.375,2.95 15.375,1.8
Top Designator:
  text ".Designator" at -7.498,-0.5 h1.5
Top Component Outline:
  lines w0.1: -12.6,2.9 -12.6,3.6 -12.4,3.6 -12.4,2.9 ; -11.6,2.9 -11.6,3.6 -11.4,3.6 -11.4,2.9 ; -10.6,2.9 -10.6,3.6 -10.4,3.6 -10.4,2.9 ; -9.6,2.9 -9.6,3.6 -9.4,3.6 -9.4,2.9 ; -8.6,2.9 -8.6,3.6 -8.4,3.6 -8.4,2.9 ; -7.6,2.9 -7.6,3.6 -7.4,3.6 -7.4,2.9 ; -6.6,2.9 -6.6,3.6 -6.4,3.6 -6.4,2.9 ; -5.6,2.9 -5.6,3.6 -5.4,3.6 -5.4,2.9 ; -4.6,2.9 -4.6,3.6 -4.4,3.6 -4.4,2.9 ; -3.6,2.9 -3.6,3.6 -3.4,3.6 -3.4,2.9 ; -2.6,2.9 -2.6,3.6 -2.4,3.6 -2.4,2.9 ; -1.6,2.9 -1.6,3.6 -1.4,3.6 -1.4,2.9 ; -0.6,2.9 -0.6,3.6 -0.4,3.6 -0.4,2.9 ; 0.4,2.9 0.4,3.6 0.6,3.6 0.6,2.9 ; 1.4,2.9 1.4,3.6 1.6,3.6 1.6,2.9 ; 2.4,2.9 2.4,3.6 2.6,3.6 2.6,2.9 ; 3.4,2.9 3.4,3.6 3.6,3.6 3.6,2.9 ; 4.4,2.9 4.4,3.6 4.6,3.6 4.6,2.9 ; 5.4,2.9 5.4,3.6 5.6,3.6 5.6,2.9 ; 6.4,2.9 6.4,3.6 6.6,3.6 6.6,2.9 ; 7.4,2.9 7.4,3.6 7.6,3.6 7.6,2.9 ; 8.4,2.9 8.4,3.6 8.6,3.6 8.6,2.9 ; 9.4,2.9 9.4,3.6 9.6,3.6 9.6,2.9 ; 10.4,2.9 10.4,3.6 10.6,3.6 10.6,2.9 ; 11.4,2.9 11.4,3.6 11.6,3.6 11.6,2.9 ; 12.4,2.9 12.4,3.6 12.6,3.6 12.6,2.9 ; -15.3,-2.9 -15.3,2.9 15.3,2.9 15.3,-2.9 -15.3,-2.9
Top 3D Body:
  lines w0.1: -12.6,2.9 -12.6,3.6 -12.4,3.6 -12.4,2.9 ; -11.6,2.9 -11.6,3.6 -11.4,3.6 -11.4,2.9 ; -10.6,2.9 -10.6,3.6 -10.4,3.6 -10.4,2.9 ; -9.6,2.9 -9.6,3.6 -9.4,3.6 -9.4,2.9 ; -8.6,2.9 -8.6,3.6 -8.4,3.6 -8.4,2.9 ; -7.6,2.9 -7.6,3.6 -7.4,3.6 -7.4,2.9 ; -6.6,2.9 -6.6,3.6 -6.4,3.6 -6.4,2.9 ; -5.6,2.9 -5.6,3.6 -5.4,3.6 -5.4,2.9 ; -4.6,2.9 -4.6,3.6 -4.4,3.6 -4.4,2.9 ; -3.6,2.9 -3.6,3.6 -3.4,3.6 -3.4,2.9 ; -2.6,2.9 -2.6,3.6 -2.4,3.6 -2.4,2.9 ; -1.6,2.9 -1.6,3.6 -1.4,3.6 -1.4,2.9 ; -0.6,2.9 -0.6,3.6 -0.4,3.6 -0.4,2.9 ; 0.4,2.9 0.4,3.6 0.6,3.6 0.6,2.9 ; 1.4,2.9 1.4,3.6 1.6,3.6 1.6,2.9 ; 2.4,2.9 2.4,3.6 2.6,3.6 2.6,2.9 ; 3.4,2.9 3.4,3.6 3.6,3.6 3.6,2.9 ; 4.4,2.9 4.4,3.6 4.6,3.6 4.6,2.9 ; 5.4,2.9 5.4,3.6 5.6,3.6 5.6,2.9 ; 6.4,2.9 6.4,3.6 6.6,3.6 6.6,2.9 ; 7.4,2.9 7.4,3.6 7.6,3.6 7.6,2.9 ; 8.4,2.9 8.4,3.6 8.6,3.6 8.6,2.9 ; 9.4,2.9 9.4,3.6 9.6,3.6 9.6,2.9 ; 10.4,2.9 10.4,3.6 10.6,3.6 10.6,2.9 ; 11.4,2.9 11.4,3.6 11.6,3.6 11.6,2.9 ; 12.4,2.9 12.4,3.6 12.6,3.6 12.6,2.9 ; -15.3,-2.9 15.3,-2.9 15.3,2.9 -15.3,2.9 -15.3,-2.9
Top Courtyard:
  lines w0.05: -0.5,0 0.5,0 ; 0,-0.5 0,0.5 ; -16,-3.15 -16,4.2 16,4.2 16,-3.15 -16,-3.15
3D body "686126148922.stp": height 2.27, standoff 0.02, extent -15.3,-2.9 15.3,3.6

## 686126188622 [mm] "LIF Connectors, Horizontal, Top Contact, pitch 1mm, 26p"
height 3.1
pads (28):
  rect 0.6x1.9 smd: 1(-12.5,3.75) 2(-11.5,3.75) 3(-10.5,3.75) 4(-9.5,3.75) 5(-8.5,3.75) 6(-7.5,3.75) 7(-6.5,3.75) 8(-5.5,3.75) 9(-4.5,3.75) 10(-3.5,3.75) 11(-2.5,3.75) 12(-1.5,3.75) 13(-0.5,3.75) 14(0.5,3.75) 15(1.5,3.75) 16(2.5,3.75) 17(3.5,3.75) 18(4.5,3.75) 19(5.5,3.75) 20(6.5,3.75) 21(7.5,3.75) 22(8.5,3.75) 23(9.5,3.75) 24(10.5,3.75) 25(11.5,3.75) 26(12.5,3.75)
  rect 2.1x2.8 smd: M1(-15.65,1.4) M2(15.65,1.4)
Top Overlay:
  circle w0.25: c-13.45,3.75 r0.125
  lines w0.2: -15,-0.3 -15,-2.5 15,-2.5 15,-0.3 ; -14.3,2.5 14.3,2.5
Top Designator:
  text ".Designator" at -7.498,-0.5 h1.5
Top Component Outline:
  lines w0.1: -12.675,2.4 -12.675,4.4 -12.325,4.4 -12.325,2.4 ; -11.675,2.4 -11.675,4.4 -11.325,4.4 -11.325,2.4 ; -10.675,2.4 -10.675,4.4 -10.325,4.4 -10.325,2.4 ; -9.675,2.4 -9.675,4.4 -9.325,4.4 -9.325,2.4 ; -8.675,2.4 -8.675,4.4 -8.325,4.4 -8.325,2.4 ; -7.675,2.4 -7.675,4.4 -7.325,4.4 -7.325,2.4 ; -6.675,2.4 -6.675,4.4 -6.325,4.4 -6.325,2.4 ; -5.675,2.4 -5.675,4.4 -5.325,4.4 -5.325,2.4 ; -4.675,2.4 -4.675,4.4 -4.325,4.4 -4.325,2.4 ; -3.675,2.4 -3.675,4.4 -3.325,4.4 -3.325,2.4 ; -2.675,2.4 -2.675,4.4 -2.325,4.4 -2.325,2.4 ; -1.675,2.4 -1.675,4.4 -1.325,4.4 -1.325,2.4 ; -0.675,2.4 -0.675,4.4 -0.325,4.4 -0.325,2.4 ; 0.325,2.4 0.325,4.4 0.675,4.4 0.675,2.4 ; 1.325,2.4 1.325,4.4 1.675,4.4 1.675,2.4 ; 2.325,2.4 2.325,4.4 2.675,4.4 2.675,2.4 ; 3.325,2.4 3.325,4.4 3.675,4.4 3.675,2.4 ; 4.325,2.4 4.325,4.4 4.675,4.4 4.675,2.4 ; 5.325,2.4 5.325,4.4 5.675,4.4 5.675,2.4 ; 6.325,2.4 6.325,4.4 6.675,4.4 6.675,2.4 ; 7.325,2.4 7.325,4.4 7.675,4.4 7.675,2.4 ; 8.325,2.4 8.325,4.4 8.675,4.4 8.675,2.4 ; 9.325,2.4 9.325,4.4 9.675,4.4 9.675,2.4 ; 10.325,2.4 10.325,4.4 10.675,4.4 10.675,2.4 ; 11.325,2.4 11.325,4.4 11.675,4.4 11.675,2.4 ; 12.325,2.4 12.325,4.4 12.675,4.4 12.675,2.4 ; -16.15,0.4 -16.15,2.4 16.15,2.4 16.15,0.4 14.9,0.4 14.9,-2.4 -14.9,-2.4 -14.9,0.4 -16.15,0.4
Top 3D Body:
  lines w0.1: -12.675,2.4 -12.675,4.4 -12.325,4.4 -12.325,2.4 ; -11.675,2.4 -11.675,4.4 -11.325,4.4 -11.325,2.4 ; -10.675,2.4 -10.675,4.4 -10.325,4.4 -10.325,2.4 ; -9.675,2.4 -9.675,4.4 -9.325,4.4 -9.325,2.4 ; -8.675,2.4 -8.675,4.4 -8.325,4.4 -8.325,2.4 ; -7.675,2.4 -7.675,4.4 -7.325,4.4 -7.325,2.4 ; -6.675,2.4 -6.675,4.4 -6.325,4.4 -6.325,2.4 ; -5.675,2.4 -5.675,4.4 -5.325,4.4 -5.325,2.4 ; -4.675,2.4 -4.675,4.4 -4.325,4.4 -4.325,2.4 ; -3.675,2.4 -3.675,4.4 -3.325,4.4 -3.325,2.4 ; -2.675,2.4 -2.675,4.4 -2.325,4.4 -2.325,2.4 ; -1.675,2.4 -1.675,4.4 -1.325,4.4 -1.325,2.4 ; -0.675,2.4 -0.675,4.4 -0.325,4.4 -0.325,2.4 ; 0.325,2.4 0.325,4.4 0.675,4.4 0.675,2.4 ; 1.325,2.4 1.325,4.4 1.675,4.4 1.675,2.4 ; 2.325,2.4 2.325,4.4 2.675,4.4 2.675,2.4 ; 3.325,2.4 3.325,4.4 3.675,4.4 3.675,2.4 ; 4.325,2.4 4.325,4.4 4.675,4.4 4.675,2.4 ; 5.325,2.4 5.325,4.4 5.675,4.4 5.675,2.4 ; 6.325,2.4 6.325,4.4 6.675,4.4 6.675,2.4 ; 7.325,2.4 7.325,4.4 7.675,4.4 7.675,2.4 ; 8.325,2.4 8.325,4.4 8.675,4.4 8.675,2.4 ; 9.325,2.4 9.325,4.4 9.675,4.4 9.675,2.4 ; 10.325,2.4 10.325,4.4 10.675,4.4 10.675,2.4 ; 11.325,2.4 11.325,4.4 11.675,4.4 11.675,2.4 ; 12.325,2.4 12.325,4.4 12.675,4.4 12.675,2.4 ; -16.15,0.4 -14.9,0.4 -14.9,-2.4 14.9,-2.4 14.9,0.4 16.15,0.4 16.15,2.4 -16.15,2.4 -16.15,0.4
Top Courtyard:
  lines w0.05: -0.5,0 0.5,0 ; 0,-0.5 0,0.5 ; -16.9,-2.7 -16.9,4.9 16.9,4.9 16.9,-2.7 -16.9,-2.7
3D body "686126188622.stp": height 3.1, standoff -0.01, extent -16.15,-2.4 16.15,4.4

## 686126188822 [mm] "LIF Connectors, Vertical Type A,  pitch 1mm, 26p"
height 5.1
pads (26):
  rect 0.6x1.7 smd: 1(-12.5,-1.85) 2(-11.5,1.85) 3(-10.5,-1.85) 4(-9.5,1.85) 5(-8.5,-1.85) 6(-7.5,1.85) 7(-6.5,-1.85) 8(-5.5,1.85) 9(-4.5,-1.85) 10(-3.5,1.85) 11(-2.5,-1.85) 12(-1.5,1.85) 13(-0.5,-1.85) 14(0.5,1.85) 15(1.5,-1.85) 16(2.5,1.85) 17(3.5,-1.85) 18(4.5,1.85) 19(5.5,-1.85) 20(6.5,1.85) 21(7.5,-1.85) 22(8.5,1.85) 23(9.5,-1.85) 24(10.5,1.85) 25(11.5,-1.85) 26(12.5,1.85)
Top Overlay:
  circle w0.25: c-13.4,-2.15 r0.125
  lines w0.2: -13.1,-1.5 -14.5,-1.5 -14.5,0.7 -13.547,1.5 -12.1,1.5 ; 12.1,-1.5 14.5,-1.5 14.5,1.5 13.1,1.5
Top Designator:
  text ".Designator" at -7.498,-0.5 h1.5
Top Component Outline:
  lines w0.1: -12.675,-1.5 -12.675,-2.2 -12.325,-2.2 -12.325,-1.5 ; -11.675,1.5 -11.675,2.2 -11.325,2.2 -11.325,1.5 ; -10.675,-1.5 -10.675,-2.2 -10.325,-2.2 -10.325,-1.5 ; -9.675,1.5 -9.675,2.2 -9.325,2.2 -9.325,1.5 ; -8.675,-1.5 -8.675,-2.2 -8.325,-2.2 -8.325,-1.5 ; -7.675,1.5 -7.675,2.2 -7.325,2.2 -7.325,1.5 ; -6.675,-1.5 -6.675,-2.2 -6.325,-2.2 -6.325,-1.5 ; -5.675,1.5 -5.675,2.2 -5.325,2.2 -5.325,1.5 ; -4.675,-1.5 -4.675,-2.2 -4.325,-2.2 -4.325,-1.5 ; -3.675,1.5 -3.675,2.2 -3.325,2.2 -3.325,1.5 ; -2.675,-1.5 -2.675,-2.2 -2.325,-2.2 -2.325,-1.5 ; -1.675,1.5 -1.675,2.2 -1.325,2.2 -1.325,1.5 ; -0.675,-1.5 -0.675,-2.2 -0.325,-2.2 -0.325,-1.5 ; 0.325,1.5 0.325,2.2 0.675,2.2 0.675,1.5 ; 1.325,-1.5 1.325,-2.2 1.675,-2.2 1.675,-1.5 ; 2.325,1.5 2.325,2.2 2.675,2.2 2.675,1.5 ; 3.325,-1.5 3.325,-2.2 3.675,-2.2 3.675,-1.5 ; 4.325,1.5 4.325,2.2 4.675,2.2 4.675,1.5 ; 5.325,-1.5 5.325,-2.2 5.675,-2.2 5.675,-1.5 ; 6.325,1.5 6.325,2.2 6.675,2.2 6.675,1.5 ; 7.325,-1.5 7.325,-2.2 7.675,-2.2 7.675,-1.5 ; 8.325,1.5 8.325,2.2 8.675,2.2 8.675,1.5 ; 9.325,-1.5 9.325,-2.2 9.675,-2.2 9.675,-1.5 ; 10.325,1.5 10.325,2.2 10.675,2.2 10.675,1.5 ; 11.325,-1.5 11.325,-2.2 11.675,-2.2 11.675,-1.5 ; 12.325,1.5 12.325,2.2 12.675,2.2 12.675,1.5 ; -14.5,-1.5 14.5,-1.5 14.5,1.5 -13.547,1.5 -14.5,0.7 -14.5,-1.5
Top 3D Body:
  lines w0.1: -12.675,-1.5 -12.675,-2.2 -12.325,-2.2 -12.325,-1.5 ; -11.675,1.5 -11.675,2.2 -11.325,2.2 -11.325,1.5 ; -10.675,-1.5 -10.675,-2.2 -10.325,-2.2 -10.325,-1.5 ; -9.675,1.5 -9.675,2.2 -9.325,2.2 -9.325,1.5 ; -8.675,-1.5 -8.675,-2.2 -8.325,-2.2 -8.325,-1.5 ; -7.675,1.5 -7.675,2.2 -7.325,2.2 -7.325,1.5 ; -6.675,-1.5 -6.675,-2.2 -6.325,-2.2 -6.325,-1.5 ; -5.675,1.5 -5.675,2.2 -5.325,2.2 -5.325,1.5 ; -4.675,-1.5 -4.675,-2.2 -4.325,-2.2 -4.325,-1.5 ; -3.675,1.5 -3.675,2.2 -3.325,2.2 -3.325,1.5 ; -2.675,-1.5 -2.675,-2.2 -2.325,-2.2 -2.325,-1.5 ; -1.675,1.5 -1.675,2.2 -1.325,2.2 -1.325,1.5 ; -0.675,-1.5 -0.675,-2.2 -0.325,-2.2 -0.325,-1.5 ; 0.325,1.5 0.325,2.2 0.675,2.2 0.675,1.5 ; 1.325,-1.5 1.325,-2.2 1.675,-2.2 1.675,-1.5 ; 2.325,1.5 2.325,2.2 2.675,2.2 2.675,1.5 ; 3.325,-1.5 3.325,-2.2 3.675,-2.2 3.675,-1.5 ; 4.325,1.5 4.325,2.2 4.675,2.2 4.675,1.5 ; 5.325,-1.5 5.325,-2.2 5.675,-2.2 5.675,-1.5 ; 6.325,1.5 6.325,2.2 6.675,2.2 6.675,1.5 ; 7.325,-1.5 7.325,-2.2 7.675,-2.2 7.675,-1.5 ; 8.325,1.5 8.325,2.2 8.675,2.2 8.675,1.5 ; 9.325,-1.5 9.325,-2.2 9.675,-2.2 9.675,-1.5 ; 10.325,1.5 10.325,2.2 10.675,2.2 10.675,1.5 ; 11.325,-1.5 11.325,-2.2 11.675,-2.2 11.675,-1.5 ; 12.325,1.5 12.325,2.2 12.675,2.2 12.675,1.5 ; -14.5,-1.5 -14.5,0.7 -13.547,1.5 14.5,1.5 14.5,-1.5 -14.5,-1.5
Top Courtyard:
  lines w0.05: -0.5,0 0.5,0 ; 0,-0.5 0,0.5 ; -14.7,-2.9 14.7,-2.9 14.7,2.9 -14.7,2.9 -14.7,-2.9
3D body "686126188822.stp": height 5.21, standoff 0.01, extent -14.5,-2.2 14.5,2.2

## 686128148922 [mm] "ZIF Connectors, Horizontal, Bottom Contact Hinge Type, pitch 1mm, 28p"
height 2.3
pads (30):
  rect 0.6x1.3 smd: 1(-13.5,3.35) 2(-12.5,3.35) 3(-11.5,3.35) 4(-10.5,3.35) 5(-9.5,3.35) 6(-8.5,3.35) 7(-7.5,3.35) 8(-6.5,3.35) 9(-5.5,3.35) 10(-4.5,3.35) 11(-3.5,3.35) 12(-2.5,3.35) 13(-1.5,3.35) 14(-0.5,3.35) 15(0.5,3.35) 16(1.5,3.35) 17(2.5,3.35) 18(3.5,3.35) 19(4.5,3.35) 20(5.5,3.35) 21(6.5,3.35) 22(7.5,3.35) 23(8.5,3.35) 24(9.5,3.35) 25(10.5,3.35) 26(11.5,3.35) 27(12.5,3.35) 28(13.5,3.35)
  rect 2x1.8 smd: M1(-15.8,0.6) M2(15.8,0.6)
Top Overlay:
  circle w0.25: c-14.45,3.6 r0.125
  lines w0.2: -16.375,-0.6 -16.375,-2.95 16.375,-2.95 16.375,-0.6 ; -16.375,1.8 -16.375,2.95 -14.125,2.95 ; 14.125,2.95 16.375,2.95 16.375,1.8
Top Designator:
  text ".Designator" at -7.498,-0.5 h1.5
Top Component Outline:
  lines w0.1: -13.6,2.9 -13.6,3.6 -13.4,3.6 -13.4,2.9 ; -12.6,2.9 -12.6,3.6 -12.4,3.6 -12.4,2.9 ; -11.6,2.9 -11.6,3.6 -11.4,3.6 -11.4,2.9 ; -10.6,2.9 -10.6,3.6 -10.4,3.6 -10.4,2.9 ; -9.6,2.9 -9.6,3.6 -9.4,3.6 -9.4,2.9 ; -8.6,2.9 -8.6,3.6 -8.4,3.6 -8.4,2.9 ; -7.6,2.9 -7.6,3.6 -7.4,3.6 -7.4,2.9 ; -6.6,2.9 -6.6,3.6 -6.4,3.6 -6.4,2.9 ; -5.6,2.9 -5.6,3.6 -5.4,3.6 -5.4,2.9 ; -4.6,2.9 -4.6,3.6 -4.4,3.6 -4.4,2.9 ; -3.6,2.9 -3.6,3.6 -3.4,3.6 -3.4,2.9 ; -2.6,2.9 -2.6,3.6 -2.4,3.6 -2.4,2.9 ; -1.6,2.9 -1.6,3.6 -1.4,3.6 -1.4,2.9 ; -0.6,2.9 -0.6,3.6 -0.4,3.6 -0.4,2.9 ; 0.4,2.9 0.4,3.6 0.6,3.6 0.6,2.9 ; 1.4,2.9 1.4,3.6 1.6,3.6 1.6,2.9 ; 2.4,2.9 2.4,3.6 2.6,3.6 2.6,2.9 ; 3.4,2.9 3.4,3.6 3.6,3.6 3.6,2.9 ; 4.4,2.9 4.4,3.6 4.6,3.6 4.6,2.9 ; 5.4,2.9 5.4,3.6 5.6,3.6 5.6,2.9 ; 6.4,2.9 6.4,3.6 6.6,3.6 6.6,2.9 ; 7.4,2.9 7.4,3.6 7.6,3.6 7.6,2.9 ; 8.4,2.9 8.4,3.6 8.6,3.6 8.6,2.9 ; 9.4,2.9 9.4,3.6 9.6,3.6 9.6,2.9 ; 10.4,2.9 10.4,3.6 10.6,3.6 10.6,2.9 ; 11.4,2.9 11.4,3.6 11.6,3.6 11.6,2.9 ; 12.4,2.9 12.4,3.6 12.6,3.6 12.6,2.9 ; 13.4,2.9 13.4,3.6 13.6,3.6 13.6,2.9 ; -16.3,-2.9 16.3,-2.9 16.3,2.9 -16.3,2.9 -16.3,-2.9
Top 3D Body:
  lines w0.1: -13.6,2.9 -13.6,3.6 -13.4,3.6 -13.4,2.9 ; -12.6,2.9 -12.6,3.6 -12.4,3.6 -12.4,2.9 ; -11.6,2.9 -11.6,3.6 -11.4,3.6 -11.4,2.9 ; -10.6,2.9 -10.6,3.6 -10.4,3.6 -10.4,2.9 ; -9.6,2.9 -9.6,3.6 -9.4,3.6 -9.4,2.9 ; -8.6,2.9 -8.6,3.6 -8.4,3.6 -8.4,2.9 ; -7.6,2.9 -7.6,3.6 -7.4,3.6 -7.4,2.9 ; -6.6,2.9 -6.6,3.6 -6.4,3.6 -6.4,2.9 ; -5.6,2.9 -5.6,3.6 -5.4,3.6 -5.4,2.9 ; -4.6,2.9 -4.6,3.6 -4.4,3.6 -4.4,2.9 ; -3.6,2.9 -3.6,3.6 -3.4,3.6 -3.4,2.9 ; -2.6,2.9 -2.6,3.6 -2.4,3.6 -2.4,2.9 ; -1.6,2.9 -1.6,3.6 -1.4,3.6 -1.4,2.9 ; -0.6,2.9 -0.6,3.6 -0.4,3.6 -0.4,2.9 ; 0.4,2.9 0.4,3.6 0.6,3.6 0.6,2.9 ; 1.4,2.9 1.4,3.6 1.6,3.6 1.6,2.9 ; 2.4,2.9 2.4,3.6 2.6,3.6 2.6,2.9 ; 3.4,2.9 3.4,3.6 3.6,3.6 3.6,2.9 ; 4.4,2.9 4.4,3.6 4.6,3.6 4.6,2.9 ; 5.4,2.9 5.4,3.6 5.6,3.6 5.6,2.9 ; 6.4,2.9 6.4,3.6 6.6,3.6 6.6,2.9 ; 7.4,2.9 7.4,3.6 7.6,3.6 7.6,2.9 ; 8.4,2.9 8.4,3.6 8.6,3.6 8.6,2.9 ; 9.4,2.9 9.4,3.6 9.6,3.6 9.6,2.9 ; 10.4,2.9 10.4,3.6 10.6,3.6 10.6,2.9 ; 11.4,2.9 11.4,3.6 11.6,3.6 11.6,2.9 ; 12.4,2.9 12.4,3.6 12.6,3.6 12.6,2.9 ; 13.4,2.9 13.4,3.6 13.6,3.6 13.6,2.9 ; -16.3,-2.9 -16.3,2.9 16.3,2.9 16.3,-2.9 -16.3,-2.9
Top Courtyard:
  lines w0.05: -0.5,0 0.5,0 ; 0,-0.5 0,0.5 ; -17,-3.15 17,-3.15 17,4.2 -17,4.2 -17,-3.15
3D body "686128148922.stp": height 2.27, standoff 0.02, extent -16.3,-2.9 16.3,3.6

## 686128188622 [mm] "LIF Connectors, Horizontal, Top Contact, pitch 1mm, 28p"
height 3.1
pads (30):
  rect 0.6x1.9 smd: 1(-13.5,3.75) 2(-12.5,3.75) 3(-11.5,3.75) 4(-10.5,3.75) 5(-9.5,3.75) 6(-8.5,3.75) 7(-7.5,3.75) 8(-6.5,3.75) 9(-5.5,3.75) 10(-4.5,3.75) 11(-3.5,3.75) 12(-2.5,3.75) 13(-1.5,3.75) 14(-0.5,3.75) 15(0.5,3.75) 16(1.5,3.75) 17(2.5,3.75) 18(3.5,3.75) 19(4.5,3.75) 20(5.5,3.75) 21(6.5,3.75) 22(7.5,3.75) 23(8.5,3.75) 24(9.5,3.75) 25(10.5,3.75) 26(11.5,3.75) 27(12.5,3.75) 28(13.5,3.75)
  rect 2.1x2.8 smd: M1(-16.65,1.4) M2(16.65,1.4)
Top Overlay:
  circle w0.25: c-14.45,3.75 r0.125
  lines w0.2: -16,-0.3 -16,-2.5 16,-2.5 16,-0.3 ; -15.3,2.5 15.3,2.5
Top Designator:
  text ".Designator" at -7.498,-0.5 h1.5
Top Component Outline:
  lines w0.1: -13.675,2.4 -13.675,4.4 -13.325,4.4 -13.325,2.4 ; -12.675,2.4 -12.675,4.4 -12.325,4.4 -12.325,2.4 ; -11.675,2.4 -11.675,4.4 -11.325,4.4 -11.325,2.4 ; -10.675,2.4 -10.675,4.4 -10.325,4.4 -10.325,2.4 ; -9.675,2.4 -9.675,4.4 -9.325,4.4 -9.325,2.4 ; -8.675,2.4 -8.675,4.4 -8.325,4.4 -8.325,2.4 ; -7.675,2.4 -7.675,4.4 -7.325,4.4 -7.325,2.4 ; -6.675,2.4 -6.675,4.4 -6.325,4.4 -6.325,2.4 ; -5.675,2.4 -5.675,4.4 -5.325,4.4 -5.325,2.4 ; -4.675,2.4 -4.675,4.4 -4.325,4.4 -4.325,2.4 ; -3.675,2.4 -3.675,4.4 -3.325,4.4 -3.325,2.4 ; -2.675,2.4 -2.675,4.4 -2.325,4.4 -2.325,2.4 ; -1.675,2.4 -1.675,4.4 -1.325,4.4 -1.325,2.4 ; -0.675,2.4 -0.675,4.4 -0.325,4.4 -0.325,2.4 ; 0.325,2.4 0.325,4.4 0.675,4.4 0.675,2.4 ; 1.325,2.4 1.325,4.4 1.675,4.4 1.675,2.4 ; 2.325,2.4 2.325,4.4 2.675,4.4 2.675,2.4 ; 3.325,2.4 3.325,4.4 3.675,4.4 3.675,2.4 ; 4.325,2.4 4.325,4.4 4.675,4.4 4.675,2.4 ; 5.325,2.4 5.325,4.4 5.675,4.4 5.675,2.4 ; 6.325,2.4 6.325,4.4 6.675,4.4 6.675,2.4 ; 7.325,2.4 7.325,4.4 7.675,4.4 7.675,2.4 ; 8.325,2.4 8.325,4.4 8.675,4.4 8.675,2.4 ; 9.325,2.4 9.325,4.4 9.675,4.4 9.675,2.4 ; 10.325,2.4 10.325,4.4 10.675,4.4 10.675,2.4 ; 11.325,2.4 11.325,4.4 11.675,4.4 11.675,2.4 ; 12.325,2.4 12.325,4.4 12.675,4.4 12.675,2.4 ; 13.325,2.4 13.325,4.4 13.675,4.4 13.675,2.4 ; -17.15,0.4 -17.15,2.4 17.15,2.4 17.15,0.4 15.9,0.4 15.9,-2.4 -15.9,-2.4 -15.9,0.4 -17.15,0.4
Top 3D Body:
  lines w0.1: -13.675,2.4 -13.675,4.4 -13.325,4.4 -13.325,2.4 ; -12.675,2.4 -12.675,4.4 -12.325,4.4 -12.325,2.4 ; -11.675,2.4 -11.675,4.4 -11.325,4.4 -11.325,2.4 ; -10.675,2.4 -10.675,4.4 -10.325,4.4 -10.325,2.4 ; -9.675,2.4 -9.675,4.4 -9.325,4.4 -9.325,2.4 ; -8.675,2.4 -8.675,4.4 -8.325,4.4 -8.325,2.4 ; -7.675,2.4 -7.675,4.4 -7.325,4.4 -7.325,2.4 ; -6.675,2.4 -6.675,4.4 -6.325,4.4 -6.325,2.4 ; -5.675,2.4 -5.675,4.4 -5.325,4.4 -5.325,2.4 ; -4.675,2.4 -4.675,4.4 -4.325,4.4 -4.325,2.4 ; -3.675,2.4 -3.675,4.4 -3.325,4.4 -3.325,2.4 ; -2.675,2.4 -2.675,4.4 -2.325,4.4 -2.325,2.4 ; -1.675,2.4 -1.675,4.4 -1.325,4.4 -1.325,2.4 ; -0.675,2.4 -0.675,4.4 -0.325,4.4 -0.325,2.4 ; 0.325,2.4 0.325,4.4 0.675,4.4 0.675,2.4 ; 1.325,2.4 1.325,4.4 1.675,4.4 1.675,2.4 ; 2.325,2.4 2.325,4.4 2.675,4.4 2.675,2.4 ; 3.325,2.4 3.325,4.4 3.675,4.4 3.675,2.4 ; 4.325,2.4 4.325,4.4 4.675,4.4 4.675,2.4 ; 5.325,2.4 5.325,4.4 5.675,4.4 5.675,2.4 ; 6.325,2.4 6.325,4.4 6.675,4.4 6.675,2.4 ; 7.325,2.4 7.325,4.4 7.675,4.4 7.675,2.4 ; 8.325,2.4 8.325,4.4 8.675,4.4 8.675,2.4 ; 9.325,2.4 9.325,4.4 9.675,4.4 9.675,2.4 ; 10.325,2.4 10.325,4.4 10.675,4.4 10.675,2.4 ; 11.325,2.4 11.325,4.4 11.675,4.4 11.675,2.4 ; 12.325,2.4 12.325,4.4 12.675,4.4 12.675,2.4 ; 13.325,2.4 13.325,4.4 13.675,4.4 13.675,2.4 ; -17.15,0.4 -15.9,0.4 -15.9,-2.4 15.9,-2.4 15.9,0.4 17.15,0.4 17.15,2.4 -17.15,2.4 -17.15,0.4
Top Courtyard:
  lines w0.05: -0.5,0 0.5,0 ; 0,-0.5 0,0.5 ; -17.9,-2.7 -17.9,4.9 17.9,4.9 17.9,-2.7 -17.9,-2.7
3D body "686128188622.stp": height 3.1, standoff -0.01, extent -17.15,-2.4 17.15,4.4